# Altium footprint library Switch & Relays FAE.PcbLib: 34 footprints (part 3 of 3)
Each footprint in its own frame and in the unit in brackets; x right, y up, seen from the top. Pads: shape width x height; smd on the part's side, far side on the other; paste and mask are expansions set on the pad; w line width, h text height; cw(c..) or ccw(c..) is an arc to the next point about the centre after c.
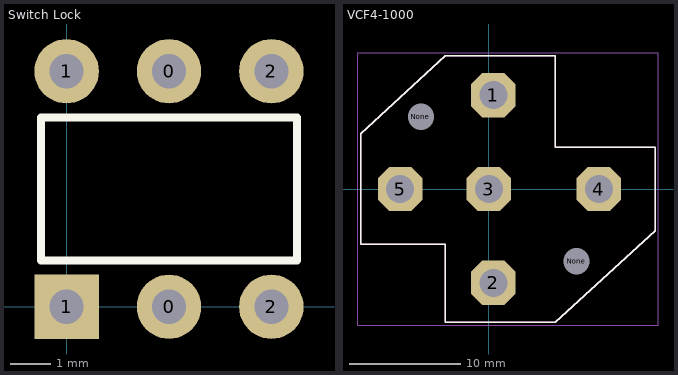
[diagram p2: the footprints below, top view; thin cyan lines are the x and y axes]

## Switch Lock [mm] "Push con enclave 8mm"
pads (6):
  round 1.6 hole 0.85: 0(2.54,0) 0(2.54,5.842) 1(0,5.842) 2(5.08,0) 2(5.08,5.842)
  rect 1.6x1.6 hole 0.85: 1(0,0)
Top Overlay:
  lines w0.2: -0.635,1.143 5.715,1.143 5.715,4.699 -0.635,4.699 -0.635,1.143
3D body "Switch Enclave.step": height 13, standoff -2.5, extent -1.433,-1.016 6.767,6.984

## VCF4-1000 [mm] "VCF4-1000 Socket Relay"
pads (7):
  oct 4x4 hole 2.5: 1(0.4,8.45) 2(0.4,-8.45) 3(0,0) 4(9.9,0) 5(-8,0)
  round 2.108 hole 2.35 unplated: None(-6.119,6.5) None(7.881,-6.5)
Top Overlay:
  lines w0.127: -11.534,-4.95 -11.534,4.95 -3.934,12 5.966,12 5.966,3.75 14.966,3.75 14.966,-3.75 5.966,-12 -3.934,-12 -3.934,-4.95 -11.534,-4.95
Mechanical 1:
  lines w0.05: -11.784,-12.25 -11.784,12.25 15.216,12.25 15.216,-12.25 -11.784,-12.25
  lines w0.127: -11.534,-4.95 -11.534,4.95 -3.934,12 5.966,12 5.966,3.75 14.966,3.75 14.966,-3.75 5.966,-12 -3.934,-12 -3.934,-4.95 -11.534,-4.95
3D body: height 40.5, standoff 15, extent -11.659,-11.873 14.833,12.127
3D body "VCF4-1000.stp": height 14.3, standoff -6.15, extent -11.659,-11.873 14.833,12.127